# Altium integrated library Linear Technology Power Management LED Driver ICs.IntLib: 490 symbols (part 45 of 48)
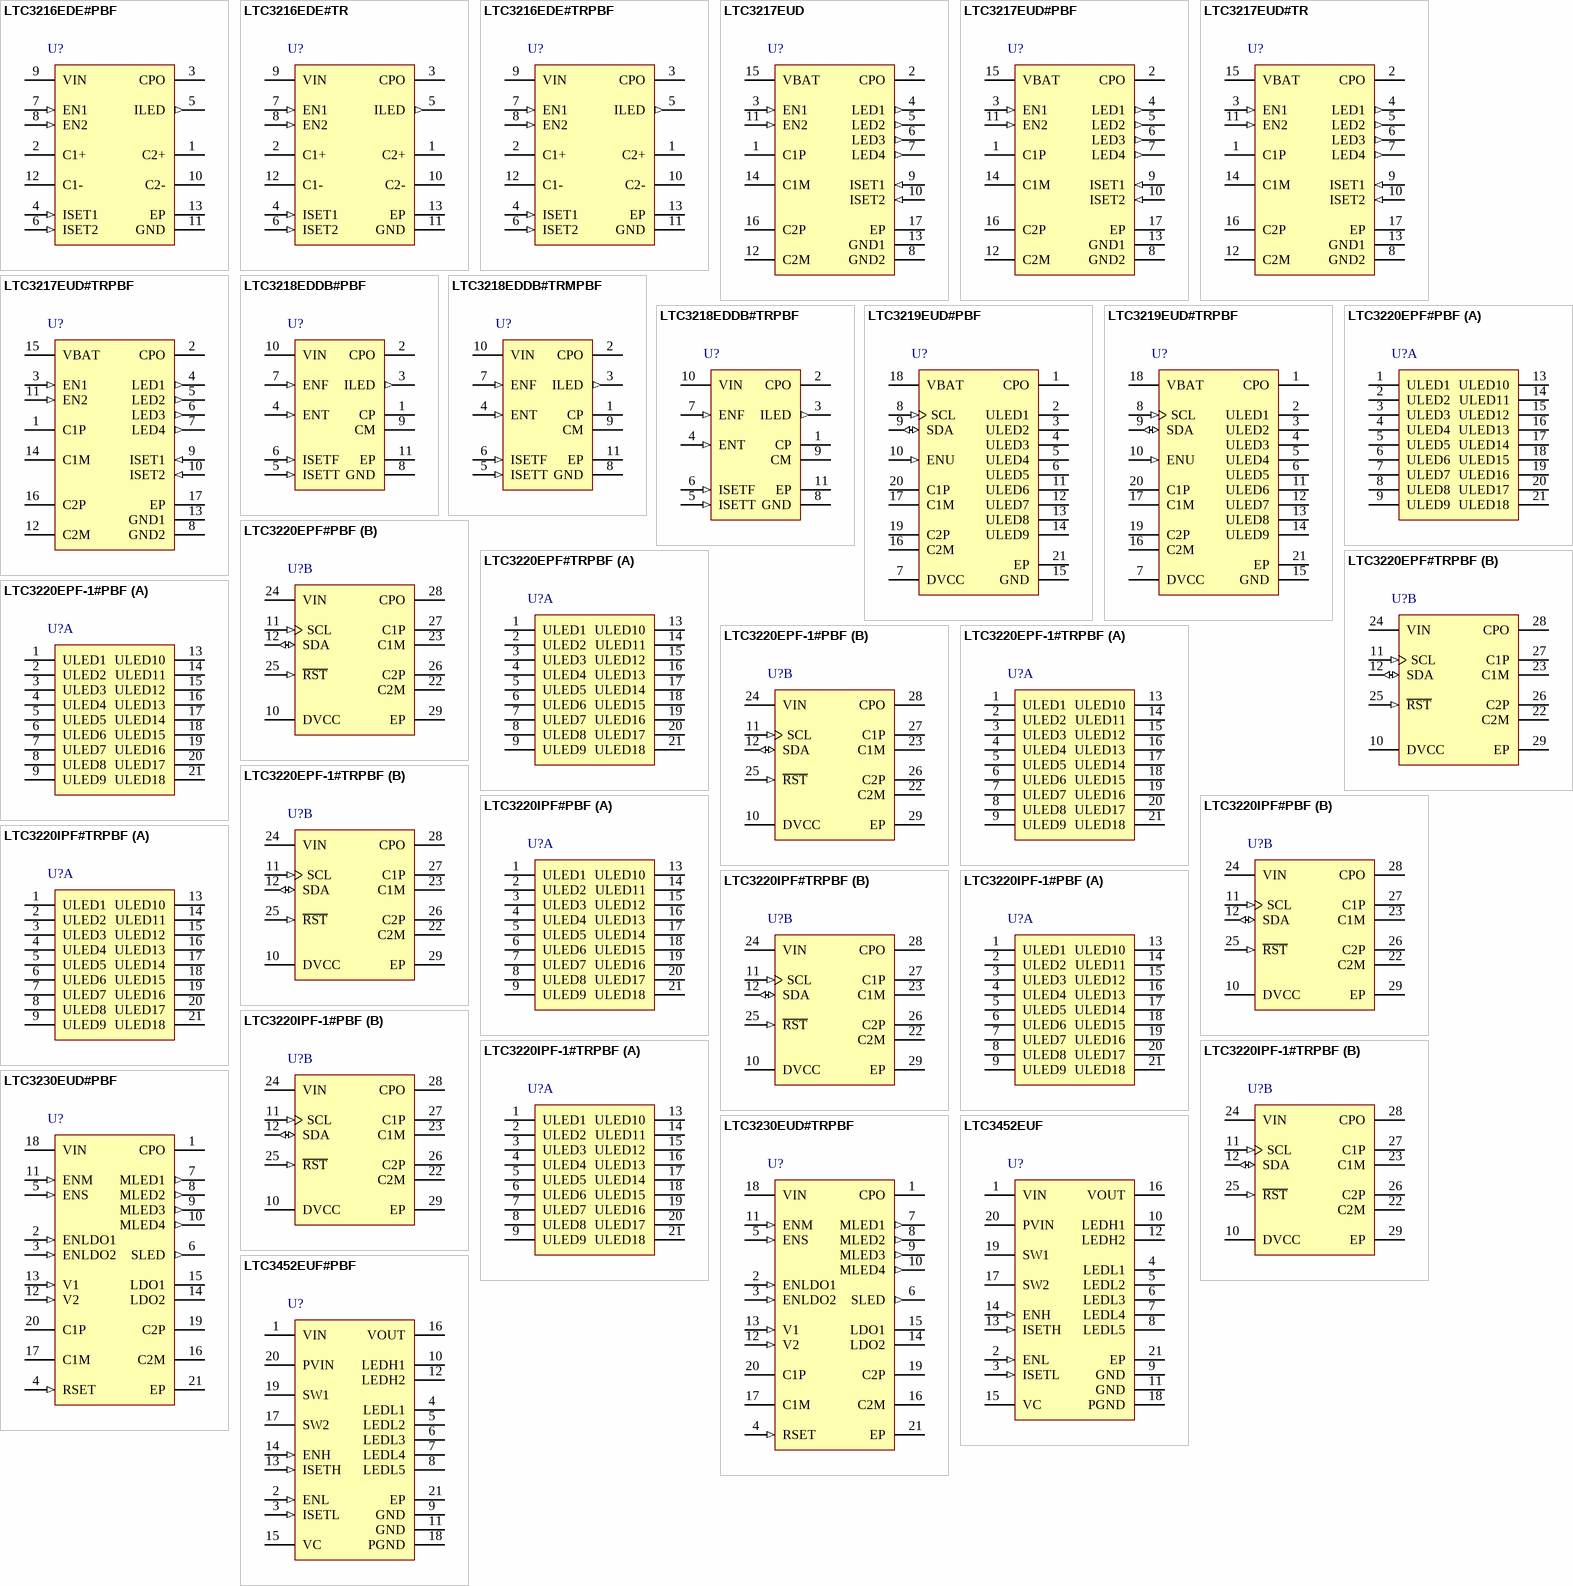
[diagram p64: symbols LTC3216EDE#PBF to LTC3452EUF#PBF]

## LTC3220IPF#PBF
designator U?
360 mA Universal 18-Channel LED Driver, 2.9 to 5.5 V Vin, 5.5 V Vout MAX, 28-pin QFN (PF-28), -40 to 125 degC, Pb-Free; Manufacturer: Linear Technology; PartNumber: LTC3220IPF#PBF; Topology: Charge Pump, LED Driver; Vin Min(V): 2.9; DatasheetVersion: Rev. C; PackageVersion: Rev. Ø, 01/2011; PackageReference: PF-28; PackageDescription: 28-Pin Plastic UTQFN, Body 4 x 4 mm, Pitch 0.4 mm; Supplier 1: Digi-Key; Supplier Part Number 1: LTC3220IPF#PBF-ND; RoHS: TRUE; Mounting Technology: Surface Mount; ComponentLink1Description: Manufacturer URL; ComponentLink1URL: http://www.linear.com/; ComponentLink2Description: Datasheet; ComponentLink2URL: http://cds.linear.com/docs/en/datasheet/32201fc.pdf; ComponentLink3Description: Package Specification; ComponentLink3URL: http://cds.linear.com/docs/en/packaging/(PF28)%20UTQFN%2005-08-1759%20Rev%20%C3%98.pdf
footprint LT-PF-28_N (QFN, 28-Leads, Body 4.1x4.1mm, Pitch 0.4mm, Thermal Pad 2.64x2.64mm, IPC Medium Density)
footprint LT-PF-28_L (QFN, 28-Leads, Body 4.1x4.1mm, Pitch 0.4mm, Thermal Pad 2.64x2.64mm, IPC High Density)
footprint LT-PF-28_M (QFN, 28-Leads, Body 4.1x4.1mm, Pitch 0.4mm, Thermal Pad 2.64x2.64mm, IPC Low Density)
part A pins: 1 ULED1 (oc) "Current Source Output for Driving LED. The LED current can be set from 0mA to 20mA in 64 steps via software control and internal 6-bit linear DAC. Each output can be disabled by setting the associated data register REG1 to (See Datasheet)", 2 ULED2 (oc) "Current Source Output for Driving LED. The LED current can be set from 0mA to 20mA in 64 steps via software control and internal 6-bit linear DAC. Each output can be disabled by setting the associated data register REG1 to (See Datasheet)", 3 ULED3 (oc) "Current Source Output for Driving LED. The LED current can be set from 0mA to 20mA in 64 steps via software control and internal 6-bit linear DAC. Each output can be disabled by setting the associated data register REG1 to (See Datasheet)", 4 ULED4 (oc) "Current Source Output for Driving LED. The LED current can be set from 0mA to 20mA in 64 steps via software control and internal 6-bit linear DAC. Each output can be disabled by setting the associated data register REG1 to (See Datasheet)", 5 ULED5 (oc) "Current Source Output for Driving LED. The LED current can be set from 0mA to 20mA in 64 steps via software control and internal 6-bit linear DAC. Each output can be disabled by setting the associated data register REG1 to (See Datasheet)", 6 ULED6 (oc) "Current Source Output for Driving LED. The LED current can be set from 0mA to 20mA in 64 steps via software control and internal 6-bit linear DAC. Each output can be disabled by setting the associated data register REG1 to (See Datasheet)", 7 ULED7 (oc) "Current Source Output for Driving LED. The LED current can be set from 0mA to 20mA in 64 steps via software control and internal 6-bit linear DAC. Each output can be disabled by setting the associated data register REG1 to (See Datasheet)", 8 ULED8 (oc) "Current Source Output for Driving LED. The LED current can be set from 0mA to 20mA in 64 steps via software control and internal 6-bit linear DAC. Each output can be disabled by setting the associated data register REG1 to (See Datasheet)", 9 ULED9 (oc) "Current Source Output for Driving LED. The LED current can be set from 0mA to 20mA in 64 steps via software control and internal 6-bit linear DAC. Each output can be disabled by setting the associated data register REG1 to (See Datasheet)", 13 ULED10 (oc) "Current Source Output for Driving LED. The LED current can be set from 0mA to 20mA in 64 steps via software control and internal 6-bit linear DAC. Each output can be disabled by setting the associated data register REG1 to (See Datasheet)", 14 ULED11 (oc) "Current Source Output for Driving LED. The LED current can be set from 0mA to 20mA in 64 steps via software control and internal 6-bit linear DAC. Each output can be disabled by setting the associated data register REG1 to (See Datasheet)", 15 ULED12 (oc) "Current Source Output for Driving LED. The LED current can be set from 0mA to 20mA in 64 steps via software control and internal 6-bit linear DAC. Each output can be disabled by setting the associated data register REG1 to (See Datasheet)", 16 ULED13 (oc) "Current Source Output for Driving LED. The LED current can be set from 0mA to 20mA in 64 steps via software control and internal 6-bit linear DAC. Each output can be disabled by setting the associated data register REG1 to (See Datasheet)", 17 ULED14 (oc) "Current Source Output for Driving LED. The LED current can be set from 0mA to 20mA in 64 steps via software control and internal 6-bit linear DAC. Each output can be disabled by setting the associated data register REG1 to (See Datasheet)", 18 ULED15 (oc) "Current Source Output for Driving LED. The LED current can be set from 0mA to 20mA in 64 steps via software control and internal 6-bit linear DAC. Each output can be disabled by setting the associated data register REG1 to (See Datasheet)", 19 ULED16 (oc) "Current Source Output for Driving LED. The LED current can be set from 0mA to 20mA in 64 steps via software control and internal 6-bit linear DAC. Each output can be disabled by setting the associated data register REG1 to (See Datasheet)", 20 ULED17 (oc) "Current Source Output for Driving LED. The LED current can be set from 0mA to 20mA in 64 steps via software control and internal 6-bit linear DAC. Each output can be disabled by setting the associated data register REG1 to (See Datasheet)", 21 ULED18 (oc) "Current Source Output for Driving LED. The LED current can be set from 0mA to 20mA in 64 steps via software control and internal 6-bit linear DAC. Each output can be disabled by setting the associated data register REG1 to (See Datasheet)"
part B pins: 10 DVCC (power) "Supply Voltage for All digital I/O lines. This pin sets the logic reference level of the LTC3220/LTC3220-1. DVCC will reset the data registers when set below the undervoltage lockout threshold. A 0.1uF X5R or X7R ceramic (See Datasheet)", 11 SCL (in) "I2C Clock Input. The logic level for SCL is referenced to DVCC.", 12 SDA (io) "Input Data for the Serial Port. Serial data is shifted in one bit per clock cycle to control the LTC3220/ LTC3220-1. The logic level is referenced to DVCC.", 22 C2M "Charge Pump Flying Capacitor Pins. A 2.2uF X7R or X5R ceramic capacitor should be connected from C1P to C1M and C2P to C2M.", 23 C1M "Charge Pump Flying Capacitor Pins. A 2.2uF X7R or X5R ceramic capacitor should be connected from C1P to C1M and C2P to C2M.", 24 VIN (power) "Supply Voltage for the Entire Device. This pin must be bypassed with a single 2.2uF low ESR ceramic capacitor.", 25 ~{RST} (in) "Active Low Reset Input. R\S\T\ Resets all internal registers and forces LTC3220/LTC3220-1 into shutdown mode.", 26 C2P "Charge Pump Flying Capacitor Pins. A 2.2uF X7R or X5R ceramic capacitor should be connected from C1P to C1M and C2P to C2M.", 27 C1P "Charge Pump Flying Capacitor Pins. A 2.2uF X7R or X5R ceramic capacitor should be connected from C1P to C1M and C2P to C2M.", 28 CPO (power) "Output of the Charge Pump. Used to power all LEDs. A 4.7uF X5R or X7R ceramic capacitor should be connected to ground.", 29 EP (power) "Ground. The Exposed Pad must be soldered to PCB ground."

## LTC3220IPF#TRPBF
designator U?
360 mA Universal 18-Channel LED Driver, 2.9 to 5.5 V Vin, 5.5 V Vout MAX, 28-pin QFN (PF-28), -40 to 125 degC, Pb-Free, Tape and Reel; Manufacturer: Linear Technology; PartNumber: LTC3220IPF#TRPBF; Topology: Charge Pump, LED Driver; Vin Min(V): 2.9; DatasheetVersion: Rev. C; PackageVersion: Rev. Ø, 01/2011; PackageReference: PF-28; PackageDescription: 28-Pin Plastic UTQFN, Body 4 x 4 mm, Pitch 0.4 mm; Supplier 1: Digi-Key; Supplier Part Number 1: LTC3220IPF#TRPBF-ND; Packing: Tape and Reel; RoHS: TRUE; Mounting Technology: Surface Mount; ComponentLink1Description: Manufacturer URL; ComponentLink1URL: http://www.linear.com/; ComponentLink2Description: Datasheet; ComponentLink2URL: http://cds.linear.com/docs/en/datasheet/32201fc.pdf; ComponentLink3Description: Package Specification; ComponentLink3URL: http://cds.linear.com/docs/en/packaging/(PF28)%20UTQFN%2005-08-1759%20Rev%20%C3%98.pdf
footprint LT-PF-28_N (QFN, 28-Leads, Body 4.1x4.1mm, Pitch 0.4mm, Thermal Pad 2.64x2.64mm, IPC Medium Density)
footprint LT-PF-28_L (QFN, 28-Leads, Body 4.1x4.1mm, Pitch 0.4mm, Thermal Pad 2.64x2.64mm, IPC High Density)
footprint LT-PF-28_M (QFN, 28-Leads, Body 4.1x4.1mm, Pitch 0.4mm, Thermal Pad 2.64x2.64mm, IPC Low Density)
part A pins: 1 ULED1 (oc) "Current Source Output for Driving LED. The LED current can be set from 0mA to 20mA in 64 steps via software control and internal 6-bit linear DAC. Each output can be disabled by setting the associated data register REG1 to (See Datasheet)", 2 ULED2 (oc) "Current Source Output for Driving LED. The LED current can be set from 0mA to 20mA in 64 steps via software control and internal 6-bit linear DAC. Each output can be disabled by setting the associated data register REG1 to (See Datasheet)", 3 ULED3 (oc) "Current Source Output for Driving LED. The LED current can be set from 0mA to 20mA in 64 steps via software control and internal 6-bit linear DAC. Each output can be disabled by setting the associated data register REG1 to (See Datasheet)", 4 ULED4 (oc) "Current Source Output for Driving LED. The LED current can be set from 0mA to 20mA in 64 steps via software control and internal 6-bit linear DAC. Each output can be disabled by setting the associated data register REG1 to (See Datasheet)", 5 ULED5 (oc) "Current Source Output for Driving LED. The LED current can be set from 0mA to 20mA in 64 steps via software control and internal 6-bit linear DAC. Each output can be disabled by setting the associated data register REG1 to (See Datasheet)", 6 ULED6 (oc) "Current Source Output for Driving LED. The LED current can be set from 0mA to 20mA in 64 steps via software control and internal 6-bit linear DAC. Each output can be disabled by setting the associated data register REG1 to (See Datasheet)", 7 ULED7 (oc) "Current Source Output for Driving LED. The LED current can be set from 0mA to 20mA in 64 steps via software control and internal 6-bit linear DAC. Each output can be disabled by setting the associated data register REG1 to (See Datasheet)", 8 ULED8 (oc) "Current Source Output for Driving LED. The LED current can be set from 0mA to 20mA in 64 steps via software control and internal 6-bit linear DAC. Each output can be disabled by setting the associated data register REG1 to (See Datasheet)", 9 ULED9 (oc) "Current Source Output for Driving LED. The LED current can be set from 0mA to 20mA in 64 steps via software control and internal 6-bit linear DAC. Each output can be disabled by setting the associated data register REG1 to (See Datasheet)", 13 ULED10 (oc) "Current Source Output for Driving LED. The LED current can be set from 0mA to 20mA in 64 steps via software control and internal 6-bit linear DAC. Each output can be disabled by setting the associated data register REG1 to (See Datasheet)", 14 ULED11 (oc) "Current Source Output for Driving LED. The LED current can be set from 0mA to 20mA in 64 steps via software control and internal 6-bit linear DAC. Each output can be disabled by setting the associated data register REG1 to (See Datasheet)", 15 ULED12 (oc) "Current Source Output for Driving LED. The LED current can be set from 0mA to 20mA in 64 steps via software control and internal 6-bit linear DAC. Each output can be disabled by setting the associated data register REG1 to (See Datasheet)", 16 ULED13 (oc) "Current Source Output for Driving LED. The LED current can be set from 0mA to 20mA in 64 steps via software control and internal 6-bit linear DAC. Each output can be disabled by setting the associated data register REG1 to (See Datasheet)", 17 ULED14 (oc) "Current Source Output for Driving LED. The LED current can be set from 0mA to 20mA in 64 steps via software control and internal 6-bit linear DAC. Each output can be disabled by setting the associated data register REG1 to (See Datasheet)", 18 ULED15 (oc) "Current Source Output for Driving LED. The LED current can be set from 0mA to 20mA in 64 steps via software control and internal 6-bit linear DAC. Each output can be disabled by setting the associated data register REG1 to (See Datasheet)", 19 ULED16 (oc) "Current Source Output for Driving LED. The LED current can be set from 0mA to 20mA in 64 steps via software control and internal 6-bit linear DAC. Each output can be disabled by setting the associated data register REG1 to (See Datasheet)", 20 ULED17 (oc) "Current Source Output for Driving LED. The LED current can be set from 0mA to 20mA in 64 steps via software control and internal 6-bit linear DAC. Each output can be disabled by setting the associated data register REG1 to (See Datasheet)", 21 ULED18 (oc) "Current Source Output for Driving LED. The LED current can be set from 0mA to 20mA in 64 steps via software control and internal 6-bit linear DAC. Each output can be disabled by setting the associated data register REG1 to (See Datasheet)"
part B pins: 10 DVCC (power) "Supply Voltage for All digital I/O lines. This pin sets the logic reference level of the LTC3220/LTC3220-1. DVCC will reset the data registers when set below the undervoltage lockout threshold. A 0.1uF X5R or X7R ceramic (See Datasheet)", 11 SCL (in) "I2C Clock Input. The logic level for SCL is referenced to DVCC.", 12 SDA (io) "Input Data for the Serial Port. Serial data is shifted in one bit per clock cycle to control the LTC3220/ LTC3220-1. The logic level is referenced to DVCC.", 22 C2M "Charge Pump Flying Capacitor Pins. A 2.2uF X7R or X5R ceramic capacitor should be connected from C1P to C1M and C2P to C2M.", 23 C1M "Charge Pump Flying Capacitor Pins. A 2.2uF X7R or X5R ceramic capacitor should be connected from C1P to C1M and C2P to C2M.", 24 VIN (power) "Supply Voltage for the Entire Device. This pin must be bypassed with a single 2.2uF low ESR ceramic capacitor.", 25 ~{RST} (in) "Active Low Reset Input. R\S\T\ Resets all internal registers and forces LTC3220/LTC3220-1 into shutdown mode.", 26 C2P "Charge Pump Flying Capacitor Pins. A 2.2uF X7R or X5R ceramic capacitor should be connected from C1P to C1M and C2P to C2M.", 27 C1P "Charge Pump Flying Capacitor Pins. A 2.2uF X7R or X5R ceramic capacitor should be connected from C1P to C1M and C2P to C2M.", 28 CPO (power) "Output of the Charge Pump. Used to power all LEDs. A 4.7uF X5R or X7R ceramic capacitor should be connected to ground.", 29 EP (power) "Ground. The Exposed Pad must be soldered to PCB ground."

## LTC3220IPF-1#PBF
designator U?
360 mA Universal 18-Channel LED Driver, 2.9 to 5.5 V Vin, 5.5 V Vout MAX, 28-pin QFN (PF-28), -40 to 125 degC, Pb-Free; Manufacturer: Linear Technology; PartNumber: LTC3220IPF-1#PBF; Topology: Charge Pump, LED Driver; Vin Min(V): 2.9; DatasheetVersion: Rev. C; PackageVersion: Rev. Ø, 01/2011; PackageReference: PF-28; PackageDescription: 28-Pin Plastic UTQFN, Body 4 x 4 mm, Pitch 0.4 mm; Supplier 1: Digi-Key; Supplier Part Number 1: LTC3220IPF-1#PBF-ND; RoHS: TRUE; Mounting Technology: Surface Mount; ComponentLink1Description: Manufacturer URL; ComponentLink1URL: http://www.linear.com/; ComponentLink2Description: Datasheet; ComponentLink2URL: http://cds.linear.com/docs/en/datasheet/32201fc.pdf; ComponentLink3Description: Package Specification; ComponentLink3URL: http://cds.linear.com/docs/en/packaging/(PF28)%20UTQFN%2005-08-1759%20Rev%20%C3%98.pdf
footprint LT-PF-28_N (QFN, 28-Leads, Body 4.1x4.1mm, Pitch 0.4mm, Thermal Pad 2.64x2.64mm, IPC Medium Density)
footprint LT-PF-28_L (QFN, 28-Leads, Body 4.1x4.1mm, Pitch 0.4mm, Thermal Pad 2.64x2.64mm, IPC High Density)
footprint LT-PF-28_M (QFN, 28-Leads, Body 4.1x4.1mm, Pitch 0.4mm, Thermal Pad 2.64x2.64mm, IPC Low Density)
part A pins: 1 ULED1 (oc) "Current Source Output for Driving LED. The LED current can be set from 0mA to 20mA in 64 steps via software control and internal 6-bit linear DAC. Each output can be disabled by setting the associated data register REG1 to (See Datasheet)", 2 ULED2 (oc) "Current Source Output for Driving LED. The LED current can be set from 0mA to 20mA in 64 steps via software control and internal 6-bit linear DAC. Each output can be disabled by setting the associated data register REG1 to (See Datasheet)", 3 ULED3 (oc) "Current Source Output for Driving LED. The LED current can be set from 0mA to 20mA in 64 steps via software control and internal 6-bit linear DAC. Each output can be disabled by setting the associated data register REG1 to (See Datasheet)", 4 ULED4 (oc) "Current Source Output for Driving LED. The LED current can be set from 0mA to 20mA in 64 steps via software control and internal 6-bit linear DAC. Each output can be disabled by setting the associated data register REG1 to (See Datasheet)", 5 ULED5 (oc) "Current Source Output for Driving LED. The LED current can be set from 0mA to 20mA in 64 steps via software control and internal 6-bit linear DAC. Each output can be disabled by setting the associated data register REG1 to (See Datasheet)", 6 ULED6 (oc) "Current Source Output for Driving LED. The LED current can be set from 0mA to 20mA in 64 steps via software control and internal 6-bit linear DAC. Each output can be disabled by setting the associated data register REG1 to (See Datasheet)", 7 ULED7 (oc) "Current Source Output for Driving LED. The LED current can be set from 0mA to 20mA in 64 steps via software control and internal 6-bit linear DAC. Each output can be disabled by setting the associated data register REG1 to (See Datasheet)", 8 ULED8 (oc) "Current Source Output for Driving LED. The LED current can be set from 0mA to 20mA in 64 steps via software control and internal 6-bit linear DAC. Each output can be disabled by setting the associated data register REG1 to (See Datasheet)", 9 ULED9 (oc) "Current Source Output for Driving LED. The LED current can be set from 0mA to 20mA in 64 steps via software control and internal 6-bit linear DAC. Each output can be disabled by setting the associated data register REG1 to (See Datasheet)", 13 ULED10 (oc) "Current Source Output for Driving LED. The LED current can be set from 0mA to 20mA in 64 steps via software control and internal 6-bit linear DAC. Each output can be disabled by setting the associated data register REG1 to (See Datasheet)", 14 ULED11 (oc) "Current Source Output for Driving LED. The LED current can be set from 0mA to 20mA in 64 steps via software control and internal 6-bit linear DAC. Each output can be disabled by setting the associated data register REG1 to (See Datasheet)", 15 ULED12 (oc) "Current Source Output for Driving LED. The LED current can be set from 0mA to 20mA in 64 steps via software control and internal 6-bit linear DAC. Each output can be disabled by setting the associated data register REG1 to (See Datasheet)", 16 ULED13 (oc) "Current Source Output for Driving LED. The LED current can be set from 0mA to 20mA in 64 steps via software control and internal 6-bit linear DAC. Each output can be disabled by setting the associated data register REG1 to (See Datasheet)", 17 ULED14 (oc) "Current Source Output for Driving LED. The LED current can be set from 0mA to 20mA in 64 steps via software control and internal 6-bit linear DAC. Each output can be disabled by setting the associated data register REG1 to (See Datasheet)", 18 ULED15 (oc) "Current Source Output for Driving LED. The LED current can be set from 0mA to 20mA in 64 steps via software control and internal 6-bit linear DAC. Each output can be disabled by setting the associated data register REG1 to (See Datasheet)", 19 ULED16 (oc) "Current Source Output for Driving LED. The LED current can be set from 0mA to 20mA in 64 steps via software control and internal 6-bit linear DAC. Each output can be disabled by setting the associated data register REG1 to (See Datasheet)", 20 ULED17 (oc) "Current Source Output for Driving LED. The LED current can be set from 0mA to 20mA in 64 steps via software control and internal 6-bit linear DAC. Each output can be disabled by setting the associated data register REG1 to (See Datasheet)", 21 ULED18 (oc) "Current Source Output for Driving LED. The LED current can be set from 0mA to 20mA in 64 steps via software control and internal 6-bit linear DAC. Each output can be disabled by setting the associated data register REG1 to (See Datasheet)"
part B pins: 10 DVCC (power) "Supply Voltage for All digital I/O lines. This pin sets the logic reference level of the LTC3220/LTC3220-1. DVCC will reset the data registers when set below the undervoltage lockout threshold. A 0.1uF X5R or X7R ceramic (See Datasheet)", 11 SCL (in) "I2C Clock Input. The logic level for SCL is referenced to DVCC.", 12 SDA (io) "Input Data for the Serial Port. Serial data is shifted in one bit per clock cycle to control the LTC3220/ LTC3220-1. The logic level is referenced to DVCC.", 22 C2M "Charge Pump Flying Capacitor Pins. A 2.2uF X7R or X5R ceramic capacitor should be connected from C1P to C1M and C2P to C2M.", 23 C1M "Charge Pump Flying Capacitor Pins. A 2.2uF X7R or X5R ceramic capacitor should be connected from C1P to C1M and C2P to C2M.", 24 VIN (power) "Supply Voltage for the Entire Device. This pin must be bypassed with a single 2.2uF low ESR ceramic capacitor.", 25 ~{RST} (in) "Active Low Reset Input. R\S\T\ Resets all internal registers and forces LTC3220/LTC3220-1 into shutdown mode.", 26 C2P "Charge Pump Flying Capacitor Pins. A 2.2uF X7R or X5R ceramic capacitor should be connected from C1P to C1M and C2P to C2M.", 27 C1P "Charge Pump Flying Capacitor Pins. A 2.2uF X7R or X5R ceramic capacitor should be connected from C1P to C1M and C2P to C2M.", 28 CPO (power) "Output of the Charge Pump. Used to power all LEDs. A 4.7uF X5R or X7R ceramic capacitor should be connected to ground.", 29 EP (power) "Ground. The Exposed Pad must be soldered to PCB ground."

## LTC3220IPF-1#TRPBF
designator U?
360 mA Universal 18-Channel LED Driver, 2.9 to 5.5 V Vin, 5.5 V Vout MAX, 28-pin QFN (PF-28), -40 to 125 degC, Pb-Free, Tape and Reel; Manufacturer: Linear Technology; PartNumber: LTC3220IPF-1#TRPBF; Topology: Charge Pump, LED Driver; Vin Min(V): 2.9; DatasheetVersion: Rev. C; PackageVersion: Rev. Ø, 01/2011; PackageReference: PF-28; PackageDescription: 28-Pin Plastic UTQFN, Body 4 x 4 mm, Pitch 0.4 mm; Supplier 1: Digi-Key; Supplier Part Number 1: LTC3220IPF-1#TRPBF-ND; Packing: Tape and Reel; RoHS: TRUE; Mounting Technology: Surface Mount; ComponentLink1Description: Manufacturer URL; ComponentLink1URL: http://www.linear.com/; ComponentLink2Description: Datasheet; ComponentLink2URL: http://cds.linear.com/docs/en/datasheet/32201fc.pdf; ComponentLink3Description: Package Specification; ComponentLink3URL: http://cds.linear.com/docs/en/packaging/(PF28)%20UTQFN%2005-08-1759%20Rev%20%C3%98.pdf
footprint LT-PF-28_N (QFN, 28-Leads, Body 4.1x4.1mm, Pitch 0.4mm, Thermal Pad 2.64x2.64mm, IPC Medium Density)
footprint LT-PF-28_L (QFN, 28-Leads, Body 4.1x4.1mm, Pitch 0.4mm, Thermal Pad 2.64x2.64mm, IPC High Density)
footprint LT-PF-28_M (QFN, 28-Leads, Body 4.1x4.1mm, Pitch 0.4mm, Thermal Pad 2.64x2.64mm, IPC Low Density)
part A pins: 1 ULED1 (oc) "Current Source Output for Driving LED. The LED current can be set from 0mA to 20mA in 64 steps via software control and internal 6-bit linear DAC. Each output can be disabled by setting the associated data register REG1 to (See Datasheet)", 2 ULED2 (oc) "Current Source Output for Driving LED. The LED current can be set from 0mA to 20mA in 64 steps via software control and internal 6-bit linear DAC. Each output can be disabled by setting the associated data register REG1 to (See Datasheet)", 3 ULED3 (oc) "Current Source Output for Driving LED. The LED current can be set from 0mA to 20mA in 64 steps via software control and internal 6-bit linear DAC. Each output can be disabled by setting the associated data register REG1 to (See Datasheet)", 4 ULED4 (oc) "Current Source Output for Driving LED. The LED current can be set from 0mA to 20mA in 64 steps via software control and internal 6-bit linear DAC. Each output can be disabled by setting the associated data register REG1 to (See Datasheet)", 5 ULED5 (oc) "Current Source Output for Driving LED. The LED current can be set from 0mA to 20mA in 64 steps via software control and internal 6-bit linear DAC. Each output can be disabled by setting the associated data register REG1 to (See Datasheet)", 6 ULED6 (oc) "Current Source Output for Driving LED. The LED current can be set from 0mA to 20mA in 64 steps via software control and internal 6-bit linear DAC. Each output can be disabled by setting the associated data register REG1 to (See Datasheet)", 7 ULED7 (oc) "Current Source Output for Driving LED. The LED current can be set from 0mA to 20mA in 64 steps via software control and internal 6-bit linear DAC. Each output can be disabled by setting the associated data register REG1 to (See Datasheet)", 8 ULED8 (oc) "Current Source Output for Driving LED. The LED current can be set from 0mA to 20mA in 64 steps via software control and internal 6-bit linear DAC. Each output can be disabled by setting the associated data register REG1 to (See Datasheet)", 9 ULED9 (oc) "Current Source Output for Driving LED. The LED current can be set from 0mA to 20mA in 64 steps via software control and internal 6-bit linear DAC. Each output can be disabled by setting the associated data register REG1 to (See Datasheet)", 13 ULED10 (oc) "Current Source Output for Driving LED. The LED current can be set from 0mA to 20mA in 64 steps via software control and internal 6-bit linear DAC. Each output can be disabled by setting the associated data register REG1 to (See Datasheet)", 14 ULED11 (oc) "Current Source Output for Driving LED. The LED current can be set from 0mA to 20mA in 64 steps via software control and internal 6-bit linear DAC. Each output can be disabled by setting the associated data register REG1 to (See Datasheet)", 15 ULED12 (oc) "Current Source Output for Driving LED. The LED current can be set from 0mA to 20mA in 64 steps via software control and internal 6-bit linear DAC. Each output can be disabled by setting the associated data register REG1 to (See Datasheet)", 16 ULED13 (oc) "Current Source Output for Driving LED. The LED current can be set from 0mA to 20mA in 64 steps via software control and internal 6-bit linear DAC. Each output can be disabled by setting the associated data register REG1 to (See Datasheet)", 17 ULED14 (oc) "Current Source Output for Driving LED. The LED current can be set from 0mA to 20mA in 64 steps via software control and internal 6-bit linear DAC. Each output can be disabled by setting the associated data register REG1 to (See Datasheet)", 18 ULED15 (oc) "Current Source Output for Driving LED. The LED current can be set from 0mA to 20mA in 64 steps via software control and internal 6-bit linear DAC. Each output can be disabled by setting the associated data register REG1 to (See Datasheet)", 19 ULED16 (oc) "Current Source Output for Driving LED. The LED current can be set from 0mA to 20mA in 64 steps via software control and internal 6-bit linear DAC. Each output can be disabled by setting the associated data register REG1 to (See Datasheet)", 20 ULED17 (oc) "Current Source Output for Driving LED. The LED current can be set from 0mA to 20mA in 64 steps via software control and internal 6-bit linear DAC. Each output can be disabled by setting the associated data register REG1 to (See Datasheet)", 21 ULED18 (oc) "Current Source Output for Driving LED. The LED current can be set from 0mA to 20mA in 64 steps via software control and internal 6-bit linear DAC. Each output can be disabled by setting the associated data register REG1 to (See Datasheet)"
part B pins: 10 DVCC (power) "Supply Voltage for All digital I/O lines. This pin sets the logic reference level of the LTC3220/LTC3220-1. DVCC will reset the data registers when set below the undervoltage lockout threshold. A 0.1uF X5R or X7R ceramic (See Datasheet)", 11 SCL (in) "I2C Clock Input. The logic level for SCL is referenced to DVCC.", 12 SDA (io) "Input Data for the Serial Port. Serial data is shifted in one bit per clock cycle to control the LTC3220/ LTC3220-1. The logic level is referenced to DVCC.", 22 C2M "Charge Pump Flying Capacitor Pins. A 2.2uF X7R or X5R ceramic capacitor should be connected from C1P to C1M and C2P to C2M.", 23 C1M "Charge Pump Flying Capacitor Pins. A 2.2uF X7R or X5R ceramic capacitor should be connected from C1P to C1M and C2P to C2M.", 24 VIN (power) "Supply Voltage for the Entire Device. This pin must be bypassed with a single 2.2uF low ESR ceramic capacitor.", 25 ~{RST} (in) "Active Low Reset Input. R\S\T\ Resets all internal registers and forces LTC3220/LTC3220-1 into shutdown mode.", 26 C2P "Charge Pump Flying Capacitor Pins. A 2.2uF X7R or X5R ceramic capacitor should be connected from C1P to C1M and C2P to C2M.", 27 C1P "Charge Pump Flying Capacitor Pins. A 2.2uF X7R or X5R ceramic capacitor should be connected from C1P to C1M and C2P to C2M.", 28 CPO (power) "Output of the Charge Pump. Used to power all LEDs. A 4.7uF X5R or X7R ceramic capacitor should be connected to ground.", 29 EP (power) "Ground. The Exposed Pad must be soldered to PCB ground."

## LTC3230EUD#PBF
designator U?
5-LED Main / Sub Display Driver with Dual LDO, 2.7 to 5.5 V Vin, 20-pin QFN (UD-20), -40 to 85 degC, Pb-Free; Manufacturer: Linear Technology; PartNumber: LTC3230EUD#PBF; Topology: Charge Pump, LED Driver, LDO; Vin Min(V): 2.7; DatasheetVersion: Rev. A; PackageVersion: Rev. A, 06/2010; PackageReference: UD-20; PackageDescription: 20-Pin Plastic QFN, Body 3 x 3 mm, Pitch 0.4 mm; Supplier 1: Digi-Key; Supplier Part Number 1: LTC3230EUD#PBF-ND; Supplier 2: Farnell; Supplier Part Number 2: 1866349; Supplier 3: Newark; Supplier Part Number 3: 56M7448; RoHS: TRUE; Mounting Technology: Surface Mount; ComponentLink1Description: Manufacturer URL; ComponentLink1URL: http://www.linear.com/; ComponentLink2Description: Datasheet; ComponentLink2URL: http://cds.linear.com/docs/en/datasheet/3230fa.pdf; ComponentLink3Description: Package Specification; ComponentLink3URL: http://cds.linear.com/docs/en/packaging/QFN_20_05-08-1720.pdf
footprint LT-UD-20_N (QFN, 20-Leads, Body 3.1x3.1mm, Pitch 0.4mm, Thermal Pad 1.65x1.65mm, IPC Medium Density)
footprint LT-UD-20_L (QFN, 20-Leads, Body 3.1x3.1mm, Pitch 0.4mm, Thermal Pad 1.65x1.65mm, IPC High Density)
footprint LT-UD-20_M (QFN, 20-Leads, Body 3.1x3.1mm, Pitch 0.4mm, Thermal Pad 1.65x1.65mm, IPC Low Density)
pins: 1 CPO (power) "Output of the Charge Pump Used to Power All LEDs. This pin is enabled or disabled using the ENM and ENS inputs. A 1uF X5R or X7R ceramic capacitor should be connected to ground.", 2 ENLDO1 (in) "LDO1 and LDO2 Enables. Logic-level high enables LDO1 or LDO2. Logic-level low disables LDO1 or LDO2.", 3 ENLDO2 (in) "LDO1 and LDO2 Enables. Logic-level high enables LDO1 or LDO2. Logic-level low disables LDO1 or LDO2.", 4 RSET (in) "LED Current Programming Resistor Pin. The RSET pin will servo to 0.8V. A resistor connected between RSET and GND is used to set the MLED and SLED full-scale current level. Connecting a resistor 10k or less will cause the (See Datasheet)", 5 ENS (in) "SLED and MLED Enable and Output Control. The ENS and ENM pins are used to program the LED output currents. Pulse the ENS pin up to 31 times to decrement the internal 5-bit DAC which controls the Sub LED current from full (See Datasheet)", 6 SLED (out) "SLED Current Driver. SLED is the Sub current source output. The LED is connected between CPO (anode) and SLED (cathode). The current to the LED output is set via the ENS input.", 7 MLED1 (out) "MLED1-4 Current Drivers. MLED1 to MLED4 are the Main current source outputs. The LEDs are connected between CPO (anodes) and MLED1-4 (cathodes). The current to the LED outputs are set via the ENM input. Any of the four LED (See Datasheet)", 8 MLED2 (out) "MLED1-4 Current Drivers. MLED1 to MLED4 are the Main current source outputs. The LEDs are connected between CPO (anodes) and MLED1-4 (cathodes). The current to the LED outputs are set via the ENM input. Any of the four LED (See Datasheet)", 9 MLED3 (out) "MLED1-4 Current Drivers. MLED1 to MLED4 are the Main current source outputs. The LEDs are connected between CPO (anodes) and MLED1-4 (cathodes). The current to the LED outputs are set via the ENM input. Any of the four LED (See Datasheet)", 10 MLED4 (out) "MLED1-4 Current Drivers. MLED1 to MLED4 are the Main current source outputs. The LEDs are connected between CPO (anodes) and MLED1-4 (cathodes). The current to the LED outputs are set via the ENM input. Any of the four LED (See Datasheet)", 11 ENM (in) "SLED and MLED Enable and Output Control. The ENS and ENM pins are used to program the LED output currents. Pulse the ENS pin up to 31 times to decrement the internal 5-bit DAC which controls the Sub LED current from full (See Datasheet)", 12 V2 (in) "LDO Output Voltage Select. V1 is used to set LDO1’s output voltage. V2 is used to set LDO2’s output voltage. Tie to VIN, GND or float. LDO Output voltages set by V1 and V2 are shown below.", 13 V1 (in) "LDO Output Voltage Select. V1 is used to set LDO1’s output voltage. V2 is used to set LDO2’s output voltage. Tie to VIN, GND or float. LDO Output voltages set by V1 and V2 are shown below.", 14 LDO2 (power) "LDO Outputs. Bypass LDO1 and LDO2 with 1uF X5R or X7R ceramic capacitors to GND.", 15 LDO1 (power) "LDO Outputs. Bypass LDO1 and LDO2 with 1uF X5R or X7R ceramic capacitors to GND.", 16 C2M "Charge Pump Flying Capacitor Pins. 1uF X5R or X7R ceramic capacitors should be connected from C1P to C1M and from C2P and C2M.", 17 C1M "Charge Pump Flying Capacitor Pins. 1uF X5R or X7R ceramic capacitors should be connected from C1P to C1M and from C2P and C2M.", 18 VIN (power) "Supply Voltage. This pin should be bypassed with a 2.2uF or greater low ESR ceramic capacitor.", 19 C2P "Charge Pump Flying Capacitor Pins. 1uF X5R or X7R ceramic capacitors should be connected from C1P to C1M and from C2P and C2M.", 20 C1P "Charge Pump Flying Capacitor Pins. 1uF X5R or X7R ceramic capacitors should be connected from C1P to C1M and from C2P and C2M.", 21 EP (power) "Ground. This pad must be connected directly to a low impedance ground plane for proper thermal and electrical performance."

## LTC3230EUD#TRPBF
designator U?
5-LED Main / Sub Display Driver with Dual LDO, 2.7 to 5.5 V Vin, 20-pin QFN (UD-20), -40 to 85 degC, Pb-Free, Tape and Reel; Manufacturer: Linear Technology; PartNumber: LTC3230EUD#TRPBF; Topology: Charge Pump, LED Driver, LDO; Vin Min(V): 2.7; DatasheetVersion: Rev. A; PackageVersion: Rev. A, 06/2010; PackageReference: UD-20; PackageDescription: 20-Pin Plastic QFN, Body 3 x 3 mm, Pitch 0.4 mm; Supplier 1: Digi-Key; Supplier Part Number 1: LTC3230EUD#TRPBF-ND; Packing: Tape and Reel; RoHS: TRUE; Mounting Technology: Surface Mount; ComponentLink1Description: Manufacturer URL; ComponentLink1URL: http://www.linear.com/; ComponentLink2Description: Datasheet; ComponentLink2URL: http://cds.linear.com/docs/en/datasheet/3230fa.pdf; ComponentLink3Description: Package Specification; ComponentLink3URL: http://cds.linear.com/docs/en/packaging/QFN_20_05-08-1720.pdf
footprint LT-UD-20_N (QFN, 20-Leads, Body 3.1x3.1mm, Pitch 0.4mm, Thermal Pad 1.65x1.65mm, IPC Medium Density)
footprint LT-UD-20_L (QFN, 20-Leads, Body 3.1x3.1mm, Pitch 0.4mm, Thermal Pad 1.65x1.65mm, IPC High Density)
footprint LT-UD-20_M (QFN, 20-Leads, Body 3.1x3.1mm, Pitch 0.4mm, Thermal Pad 1.65x1.65mm, IPC Low Density)
pins: 1 CPO (power) "Output of the Charge Pump Used to Power All LEDs. This pin is enabled or disabled using the ENM and ENS inputs. A 1uF X5R or X7R ceramic capacitor should be connected to ground.", 2 ENLDO1 (in) "LDO1 and LDO2 Enables. Logic-level high enables LDO1 or LDO2. Logic-level low disables LDO1 or LDO2.", 3 ENLDO2 (in) "LDO1 and LDO2 Enables. Logic-level high enables LDO1 or LDO2. Logic-level low disables LDO1 or LDO2.", 4 RSET (in) "LED Current Programming Resistor Pin. The RSET pin will servo to 0.8V. A resistor connected between RSET and GND is used to set the MLED and SLED full-scale current level. Connecting a resistor 10k or less will cause the (See Datasheet)", 5 ENS (in) "SLED and MLED Enable and Output Control. The ENS and ENM pins are used to program the LED output currents. Pulse the ENS pin up to 31 times to decrement the internal 5-bit DAC which controls the Sub LED current from full (See Datasheet)", 6 SLED (out) "SLED Current Driver. SLED is the Sub current source output. The LED is connected between CPO (anode) and SLED (cathode). The current to the LED output is set via the ENS input.", 7 MLED1 (out) "MLED1-4 Current Drivers. MLED1 to MLED4 are the Main current source outputs. The LEDs are connected between CPO (anodes) and MLED1-4 (cathodes). The current to the LED outputs are set via the ENM input. Any of the four LED (See Datasheet)", 8 MLED2 (out) "MLED1-4 Current Drivers. MLED1 to MLED4 are the Main current source outputs. The LEDs are connected between CPO (anodes) and MLED1-4 (cathodes). The current to the LED outputs are set via the ENM input. Any of the four LED (See Datasheet)", 9 MLED3 (out) "MLED1-4 Current Drivers. MLED1 to MLED4 are the Main current source outputs. The LEDs are connected between CPO (anodes) and MLED1-4 (cathodes). The current to the LED outputs are set via the ENM input. Any of the four LED (See Datasheet)", 10 MLED4 (out) "MLED1-4 Current Drivers. MLED1 to MLED4 are the Main current source outputs. The LEDs are connected between CPO (anodes) and MLED1-4 (cathodes). The current to the LED outputs are set via the ENM input. Any of the four LED (See Datasheet)", 11 ENM (in) "SLED and MLED Enable and Output Control. The ENS and ENM pins are used to program the LED output currents. Pulse the ENS pin up to 31 times to decrement the internal 5-bit DAC which controls the Sub LED current from full (See Datasheet)", 12 V2 (in) "LDO Output Voltage Select. V1 is used to set LDO1’s output voltage. V2 is used to set LDO2’s output voltage. Tie to VIN, GND or float. LDO Output voltages set by V1 and V2 are shown below.", 13 V1 (in) "LDO Output Voltage Select. V1 is used to set LDO1’s output voltage. V2 is used to set LDO2’s output voltage. Tie to VIN, GND or float. LDO Output voltages set by V1 and V2 are shown below.", 14 LDO2 (power) "LDO Outputs. Bypass LDO1 and LDO2 with 1uF X5R or X7R ceramic capacitors to GND.", 15 LDO1 (power) "LDO Outputs. Bypass LDO1 and LDO2 with 1uF X5R or X7R ceramic capacitors to GND.", 16 C2M "Charge Pump Flying Capacitor Pins. 1uF X5R or X7R ceramic capacitors should be connected from C1P to C1M and from C2P and C2M.", 17 C1M "Charge Pump Flying Capacitor Pins. 1uF X5R or X7R ceramic capacitors should be connected from C1P to C1M and from C2P and C2M.", 18 VIN (power) "Supply Voltage. This pin should be bypassed with a 2.2uF or greater low ESR ceramic capacitor.", 19 C2P "Charge Pump Flying Capacitor Pins. 1uF X5R or X7R ceramic capacitors should be connected from C1P to C1M and from C2P and C2M.", 20 C1P "Charge Pump Flying Capacitor Pins. 1uF X5R or X7R ceramic capacitors should be connected from C1P to C1M and from C2P and C2M.", 21 EP (power) "Ground. This pad must be connected directly to a low impedance ground plane for proper thermal and electrical performance."

## LTC3452EUF
designator U?
Synchronous Buck-Boost MAIN / CAMERA White LED Driver, 2.7 to 5.5 V Vin, 4.5 V Vout MAX, 20-pin QFN (UF-20), -40 to 85 degC; Manufacturer: Linear Technology; PartNumber: LTC3452EUF; Topology: Buck-Boost, LED Driver; Vin Min(V): 2.7; PackageVersion: Rev. A, 10/2010; PackageReference: UF20; PackageDescription: 20-Pin Plastic QFN, Body 4 x 4 mm, Pitch 0.5 mm; RoHS: FALSE; Mounting Technology: Surface Mount; Code_JEDEC: MO-220; ComponentLink1Description: Manufacturer URL; ComponentLink1URL: http://www.linear.com/; ComponentLink2Description: Datasheet; ComponentLink2URL: http://cds.linear.com/docs/en/datasheet/3452f.pdf; ComponentLink3Description: Package Specification; ComponentLink3URL: http://cds.linear.com/docs/en/packaging/QFN_20_05-08-1710.pdf
footprint LT-UF-20_N (QFN, 20-Leads, Body 4.1x4.1mm, Pitch 0.5mm, Thermal Pad 2.45x2.45mm, IPC Medium Density)
footprint LT-UF-20_L (QFN, 20-Leads, Body 4.1x4.1mm, Pitch 0.5mm, Thermal Pad 2.45x2.45mm, IPC High Density)
footprint LT-UF-20_M (QFN, 20-Leads, Body 4.1x4.1mm, Pitch 0.5mm, Thermal Pad 2.45x2.45mm, IPC Low Density)
pins: 1 VIN (power) "Signal Voltage Input Supply Pin (2.7V =< VIN =< 5.5V). Recommended bypass capacitor to GND is 2.2uF ceramic or larger. Connect to PVIN (Pin 20).", 2 ENL (in) "Enable Input Pin and PWM Brightness Control for Low Power LED Bank. Active high. For constant IMAXL operation, connect the ENL pin to VIN (or any voltage >1.2V). For ENL voltage <0.2V, all low power bank LED current source (See Datasheet)", 3 ISETL (in) "Low Power LED Bank Current Programming Pin. A resistor to ground programs each low power bank current source output maximum to ILEDLx|MAX = 256 • (0.8V/RISETL). Enabled by ENL (Pin 2). PWM brightness control also via ENL.", 4 LEDL1 (hiz) "Individual Low Dropout Current Source Output for Low Power LED Bank Current Biasing. Connect each low power LED between VOUT and an individual LEDLx pin. Unused LEDLx outputs should be connected to VOUT.", 5 LEDL2 (hiz) "Individual Low Dropout Current Source Output for Low Power LED Bank Current Biasing. Connect each low power LED between VOUT and an individual LEDLx pin. Unused LEDLx outputs should be connected to VOUT.", 6 LEDL3 (hiz) "Individual Low Dropout Current Source Output for Low Power LED Bank Current Biasing. Connect each low power LED between VOUT and an individual LEDLx pin. Unused LEDLx outputs should be connected to VOUT.", 7 LEDL4 (hiz) "Individual Low Dropout Current Source Output for Low Power LED Bank Current Biasing. Connect each low power LED between VOUT and an individual LEDLx pin. Unused LEDLx outputs should be connected to VOUT.", 8 LEDL5 (hiz) "Individual Low Dropout Current Source Output for Low Power LED Bank Current Biasing. Connect each low power LED between VOUT and an individual LEDLx pin. Unused LEDLx outputs should be connected to VOUT.", 9 GND (power) "Signal Ground Pin. Connect together and to PGND (Pin 18) and Exposed Pad ground (Pin 21).", 10 LEDH1 (hiz) "Individual Low Dropout Current Source Outputs for High Power LED Bank Current Biasing. Connect each high power LED between VOUT and an individual LEDHx pin. Unused LEDHx outputs should be connected to VOUT.", 11 GND (power) "Signal Ground Pin. Connect together and to PGND (Pin 18) and Exposed Pad ground (Pin 21).", 12 LEDH2 (hiz) "Individual Low Dropout Current Source Outputs for High Power LED Bank Current Biasing. Connect each high power LED between VOUT and an individual LEDHx pin. Unused LEDHx outputs should be connected to VOUT.", 13 ISETH (in) "High Power LED Bank Current Programming Pin. A resistor to ground programs each high power bank current source output to ILEDHx = 768(0.8V/RISETH). Enabled by ENH (Pin 14).", 14 ENH (in) "Enable Input Pin for High Power LED Bank. Active high. The ENH pin is high impedance and should not be floated.", 15 VC "Compensation Point for the Internal Error Amplifier Output. Recommended compensation capacitor to GND is 0.1uF ceramic or larger.", 16 VOUT (power) "Buck-Boost Output Pin. Recommended bypass capacitor to GND is 4.7uF ceramic.", 17 SW2 "Switching Node Pin. Connected to internal power switches C and D. External inductor connects between SW1 and SW2. Recommended value is 4.7uH.", 18 PGND (power) "Power Ground Pin. Connect to GND (Pins 9 and 11).", 19 SW1 "Switching Node Pin. Connected to internal power switches A and B. External inductor connects between SW1 and SW2. Recommended value is 4.7uH.", 20 PVIN (power) "Power Voltage Input Supply Pin. Connect to VIN (Pin 1).", 21 EP (power) "Heat Sink Ground. Connect to GND (Pins 9 and 11) and solder to PCB ground for electrical contact and rated thermal performance."

## LTC3452EUF#PBF
designator U?
Synchronous Buck-Boost MAIN / CAMERA White LED Driver, 2.7 to 5.5 V Vin, 4.5 V Vout MAX, 20-pin QFN (UF-20), -40 to 85 degC, Pb-Free; Manufacturer: Linear Technology; PartNumber: LTC3452EUF#PBF; Topology: Buck-Boost, LED Driver; Vin Min(V): 2.7; PackageVersion: Rev. A, 10/2010; PackageReference: UF20; PackageDescription: 20-Pin Plastic QFN, Body 4 x 4 mm, Pitch 0.5 mm; Supplier 1: Digi-Key; Supplier Part Number 1: LTC3452EUF#PBF-ND; RoHS: TRUE; Mounting Technology: Surface Mount; Code_JEDEC: MO-220; ComponentLink1Description: Manufacturer URL; ComponentLink1URL: http://www.linear.com/; ComponentLink2Description: Datasheet; ComponentLink2URL: http://cds.linear.com/docs/en/datasheet/3452f.pdf; ComponentLink3Description: Package Specification; ComponentLink3URL: http://cds.linear.com/docs/en/packaging/QFN_20_05-08-1710.pdf
footprint LT-UF-20_N (QFN, 20-Leads, Body 4.1x4.1mm, Pitch 0.5mm, Thermal Pad 2.45x2.45mm, IPC Medium Density)
footprint LT-UF-20_L (QFN, 20-Leads, Body 4.1x4.1mm, Pitch 0.5mm, Thermal Pad 2.45x2.45mm, IPC High Density)
footprint LT-UF-20_M (QFN, 20-Leads, Body 4.1x4.1mm, Pitch 0.5mm, Thermal Pad 2.45x2.45mm, IPC Low Density)
pins: 1 VIN (power) "Signal Voltage Input Supply Pin (2.7V =< VIN =< 5.5V). Recommended bypass capacitor to GND is 2.2uF ceramic or larger. Connect to PVIN (Pin 20).", 2 ENL (in) "Enable Input Pin and PWM Brightness Control for Low Power LED Bank. Active high. For constant IMAXL operation, connect the ENL pin to VIN (or any voltage >1.2V). For ENL voltage <0.2V, all low power bank LED current source (See Datasheet)", 3 ISETL (in) "Low Power LED Bank Current Programming Pin. A resistor to ground programs each low power bank current source output maximum to ILEDLx|MAX = 256 • (0.8V/RISETL). Enabled by ENL (Pin 2). PWM brightness control also via ENL.", 4 LEDL1 (hiz) "Individual Low Dropout Current Source Output for Low Power LED Bank Current Biasing. Connect each low power LED between VOUT and an individual LEDLx pin. Unused LEDLx outputs should be connected to VOUT.", 5 LEDL2 (hiz) "Individual Low Dropout Current Source Output for Low Power LED Bank Current Biasing. Connect each low power LED between VOUT and an individual LEDLx pin. Unused LEDLx outputs should be connected to VOUT.", 6 LEDL3 (hiz) "Individual Low Dropout Current Source Output for Low Power LED Bank Current Biasing. Connect each low power LED between VOUT and an individual LEDLx pin. Unused LEDLx outputs should be connected to VOUT.", 7 LEDL4 (hiz) "Individual Low Dropout Current Source Output for Low Power LED Bank Current Biasing. Connect each low power LED between VOUT and an individual LEDLx pin. Unused LEDLx outputs should be connected to VOUT.", 8 LEDL5 (hiz) "Individual Low Dropout Current Source Output for Low Power LED Bank Current Biasing. Connect each low power LED between VOUT and an individual LEDLx pin. Unused LEDLx outputs should be connected to VOUT.", 9 GND (power) "Signal Ground Pin. Connect together and to PGND (Pin 18) and Exposed Pad ground (Pin 21).", 10 LEDH1 (hiz) "Individual Low Dropout Current Source Outputs for High Power LED Bank Current Biasing. Connect each high power LED between VOUT and an individual LEDHx pin. Unused LEDHx outputs should be connected to VOUT.", 11 GND (power) "Signal Ground Pin. Connect together and to PGND (Pin 18) and Exposed Pad ground (Pin 21).", 12 LEDH2 (hiz) "Individual Low Dropout Current Source Outputs for High Power LED Bank Current Biasing. Connect each high power LED between VOUT and an individual LEDHx pin. Unused LEDHx outputs should be connected to VOUT.", 13 ISETH (in) "High Power LED Bank Current Programming Pin. A resistor to ground programs each high power bank current source output to ILEDHx = 768(0.8V/RISETH). Enabled by ENH (Pin 14).", 14 ENH (in) "Enable Input Pin for High Power LED Bank. Active high. The ENH pin is high impedance and should not be floated.", 15 VC "Compensation Point for the Internal Error Amplifier Output. Recommended compensation capacitor to GND is 0.1uF ceramic or larger.", 16 VOUT (power) "Buck-Boost Output Pin. Recommended bypass capacitor to GND is 4.7uF ceramic.", 17 SW2 "Switching Node Pin. Connected to internal power switches C and D. External inductor connects between SW1 and SW2. Recommended value is 4.7uH.", 18 PGND (power) "Power Ground Pin. Connect to GND (Pins 9 and 11).", 19 SW1 "Switching Node Pin. Connected to internal power switches A and B. External inductor connects between SW1 and SW2. Recommended value is 4.7uH.", 20 PVIN (power) "Power Voltage Input Supply Pin. Connect to VIN (Pin 1).", 21 EP (power) "Heat Sink Ground. Connect to GND (Pins 9 and 11) and solder to PCB ground for electrical contact and rated thermal performance."

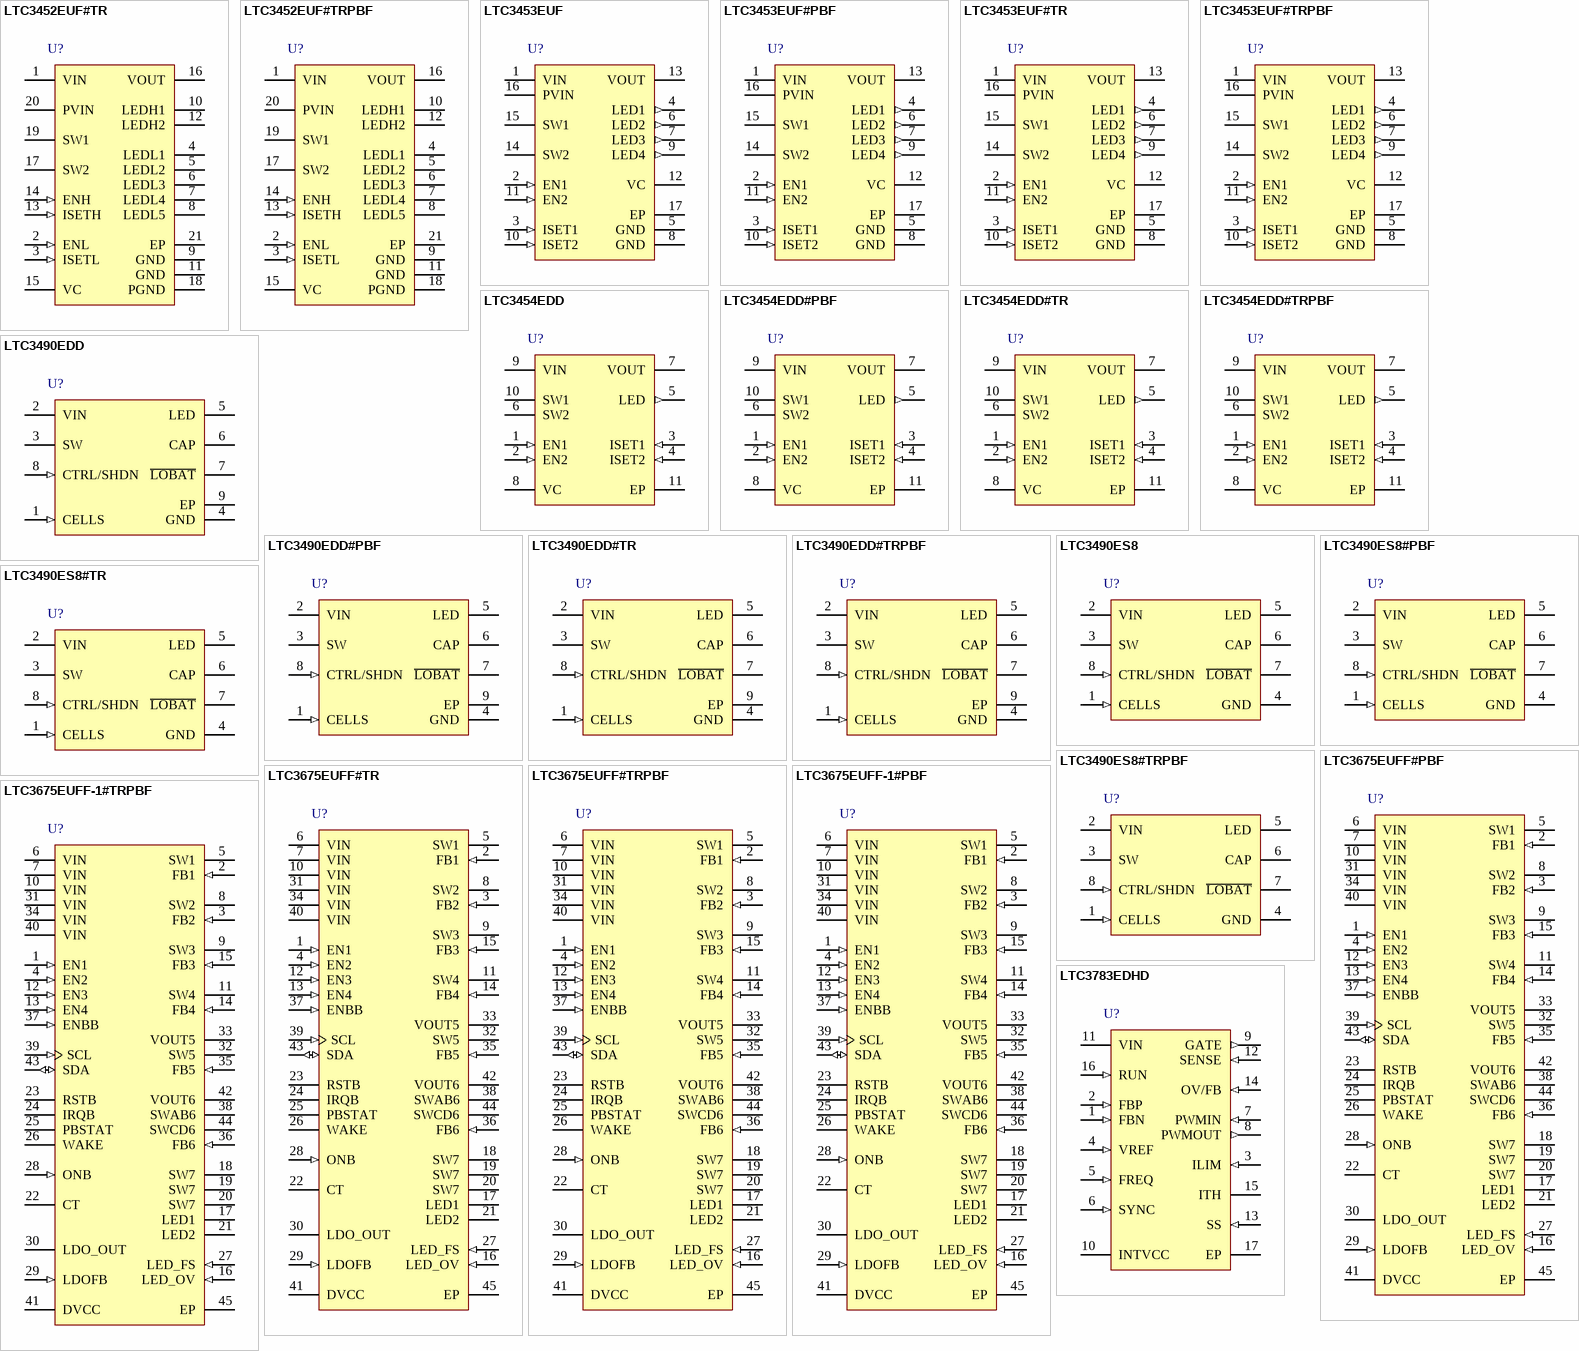
[diagram p19: symbols LTC3452EUF#TR to LTC3783EDHD]